# EAGLE library part TPS259474LRPWR (library TPS259474LRPWR)
Hot Swap Voltage Controllers 2.7-V to 23-V, 28-m?, 5.5-A eFuse with integrated reverse polarity protection Source: Datasheet <https://www.ti.com/lit/gpn/tps25981>
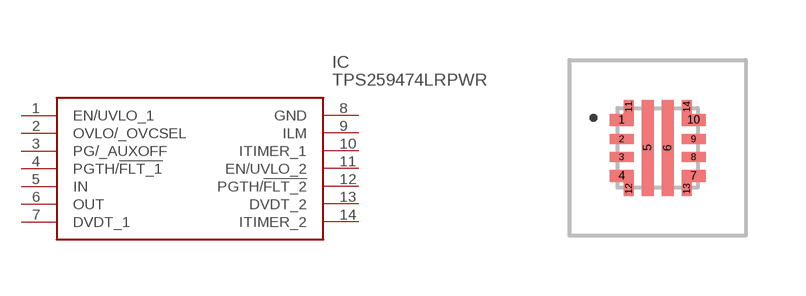
[diagram p0: symbol with the pads of TPS259474LRPWR; footprint TPS259474LRPWR]

Designator prefix IC

## TPS259474LRPWR (Description: Hot Swap Voltage Controllers 2.7-V to 23-V, 28-m?, 5.5-A eFuse with integrated reverse polarity protection; Height: 1mm; Manufacturer_Name: Texas Instruments; Manufacturer_Part_Number: TPS259474LRPWR; Mouser_Part_Number: 595-TPS259474LRPWR; Mouser_Price-Stock: https://www.mouser.co.uk/ProductDetail/Texas-Instruments/TPS259474LRPWR?qs=iLbezkQI%252BsixXidX03eIQA%3D%3D)  [TPS259474LRPWR]
1  EN/UVLO_1
2  OVLO/_OVCSEL
3  PG/_AUXOFF
4  PGTH/!FLT_1
5  IN
6  OUT
7  DVDT_1
8  GND
9  ILM
10  ITIMER_1
11  EN/UVLO_2
12  PGTH/!FLT_2
13  DVDT_2
14  ITIMER_2

## Footprint TPS259474LRPWR (pad centres in mm)
RPW0010A-6
smd 0.6 x 0.3: 1 -0.9,0.7; 4 -0.9,-0.7; 7 0.9,-0.7; 10 0.9,0.7
smd 0.6 x 0.25: 2 -0.9,0.225; 3 -0.9,-0.225; 8 0.9,-0.225; 9 0.9,0.225
smd 0.3 x 2.4: 5 -0.25,0; 6 0.25,0
smd 0.25 x 0.35: 11 -0.725,1.025; 12 -0.725,-1.025; 13 0.725,-1.025; 14 0.725,1.025